# Altium schematic symbol library Custom.SchLib: 11 symbols
Pins are listed as number, name and electrical type; pins without a type are passive.

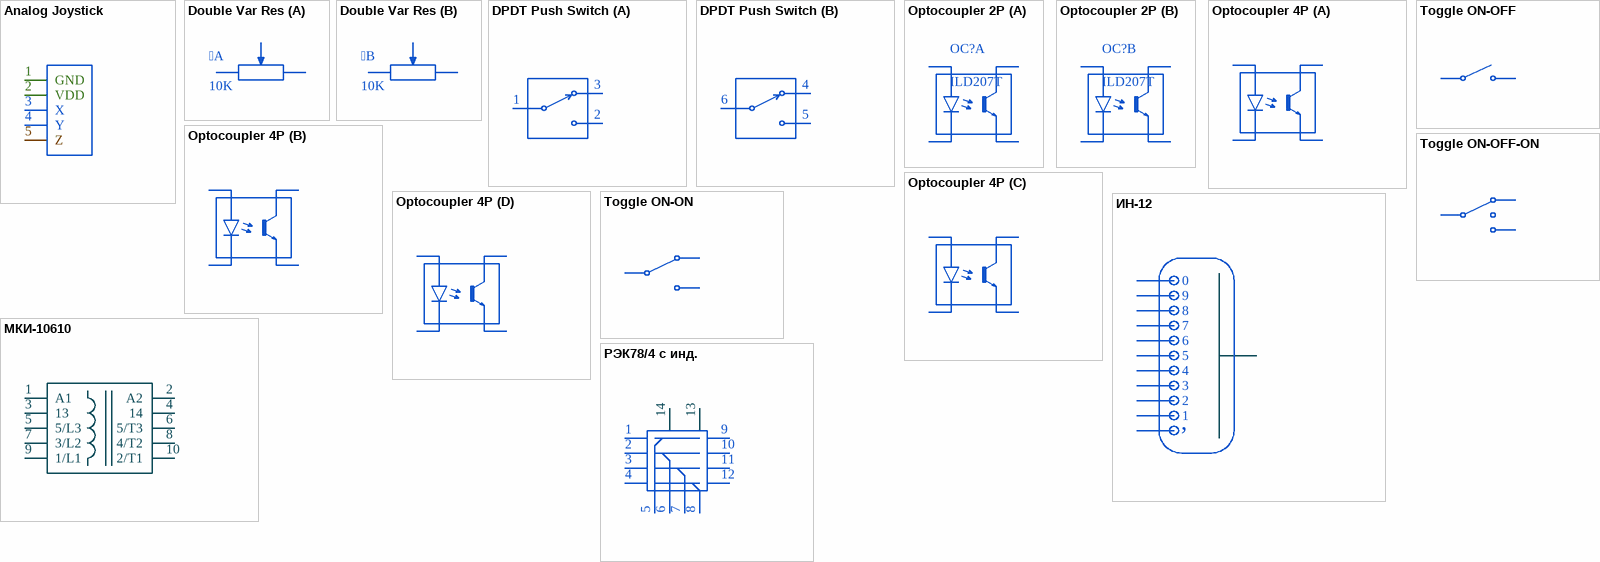
[diagram p0: symbols Analog Joystick to РЭК78/4 с инд.]

## Analog Joystick
designator U?, comment RKJXV1224005
Name: RKJXV1224005
footprint RKJXV1224005 (PS5 Analog Joystick)
footprint COM-09032 (PS3/PS4 Analog Joystick)
pins: 1 GND, 2 VDD, 3 X, 4 Y, 5 Z

## Double Var Res
designator , comment 10K
Name: RK1411G; Value: 10K
footprint RK1411G
part A pins: 1 2, 2 1, 6 3
part B pins: 3 1, 4 2, 5 3

## DPDT Push Switch
designator SW?, comment MHPS2273  (value not drawn)
Name: MHPS2273; Case: DNP; Part Number: N/A
footprint MHPS2273 (MHPS Series Key Switches)
part A pins: 1, 2, 3
part B pins: 4, 5, 6

## Optocoupler 2P
designator OC?, comment ILD207T
Name: ILD207T
footprint SOIC8
footprint DIP8
footprint DIP8-WHITE
part A pins: 1, 2, 7 3, 8 4
part B pins: 3 1, 4 3, 5 3, 6 4

## Optocoupler 4P
designator OC?, comment PS2801-4
Name: PS2801-4
footprint SSOP16
footprint SOP16
footprint DIP16
footprint DIP16-WHITE
footprint SOIC16
part A pins: 1, 2, 15 3, 16 4
part B pins: 3 1, 4 2, 13 3, 14 4
part C pins: 5 1, 6 2, 11 3, 12 4
part D pins: 7 1, 8 2, 9 3, 10 4

## Toggle ON-OFF
designator SW?, comment KN3(C)-101P
Name: KN3(C)-101P
footprint DIP_SW1
footprint MTS-1XX-A2 (Miniature Toggle Switch)
pins: 1, 3

## Toggle ON-OFF-ON
designator SW?, comment KN3(B)-103P
Name: KN3(B)-103P; Case: DNP; Part Number: N/A
footprint MTS-1XX-A2 (Miniature Toggle Switch)
pins: 1, 2, 3

## Toggle ON-ON
designator SW?, comment KN3(C)-102P
Name: KN3(C)-102P
footprint MTS-1XX-A2 (Miniature Toggle Switch)
pins: 1, 2, 3

## ИН-12
designator EL?
Name: ИН-12; Case: DNP; Part Number: N/A
footprint ИН-12
pins: 1, 2 0, 3 9, 4 8, 5 7, 6, 7 5, 8 4, 9 3, 10 2, 11 1, 12 COMMA
text: ,

## МКИ-10610
designator MS?
Name: МКИ-10610
pins: 1 A1, 2 A2, 3 13, 4 14, 5 5/L3, 6 5/T3, 7 3/L2, 8 4/T2, 9 1/L1, 10 2/T1

## РЭК78/4 с инд.
designator RE?
Name: РЭК78/4 с инд.
pins: 1, 2, 3, 4, 5, 6, 7, 8, 9, 10, 11, 12, 13, 14